# Altium schematic symbol library PMV20XNEAR.SchLib: 1 symbol
Pins are listed as number, name and electrical type; pins without a type are passive.

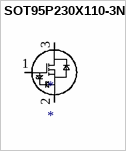
[diagram p0: symbol SOT95P230X110-3N]

## SOT95P230X110-3N
designator *
footprint SOT95P230X110-3N
footprint SOT95P230X110-3N
pins: 1, 2, 3